# Altium integrated library Silicon Labs Isolation and Power.IntLib: 421 symbols (part 15 of 19)
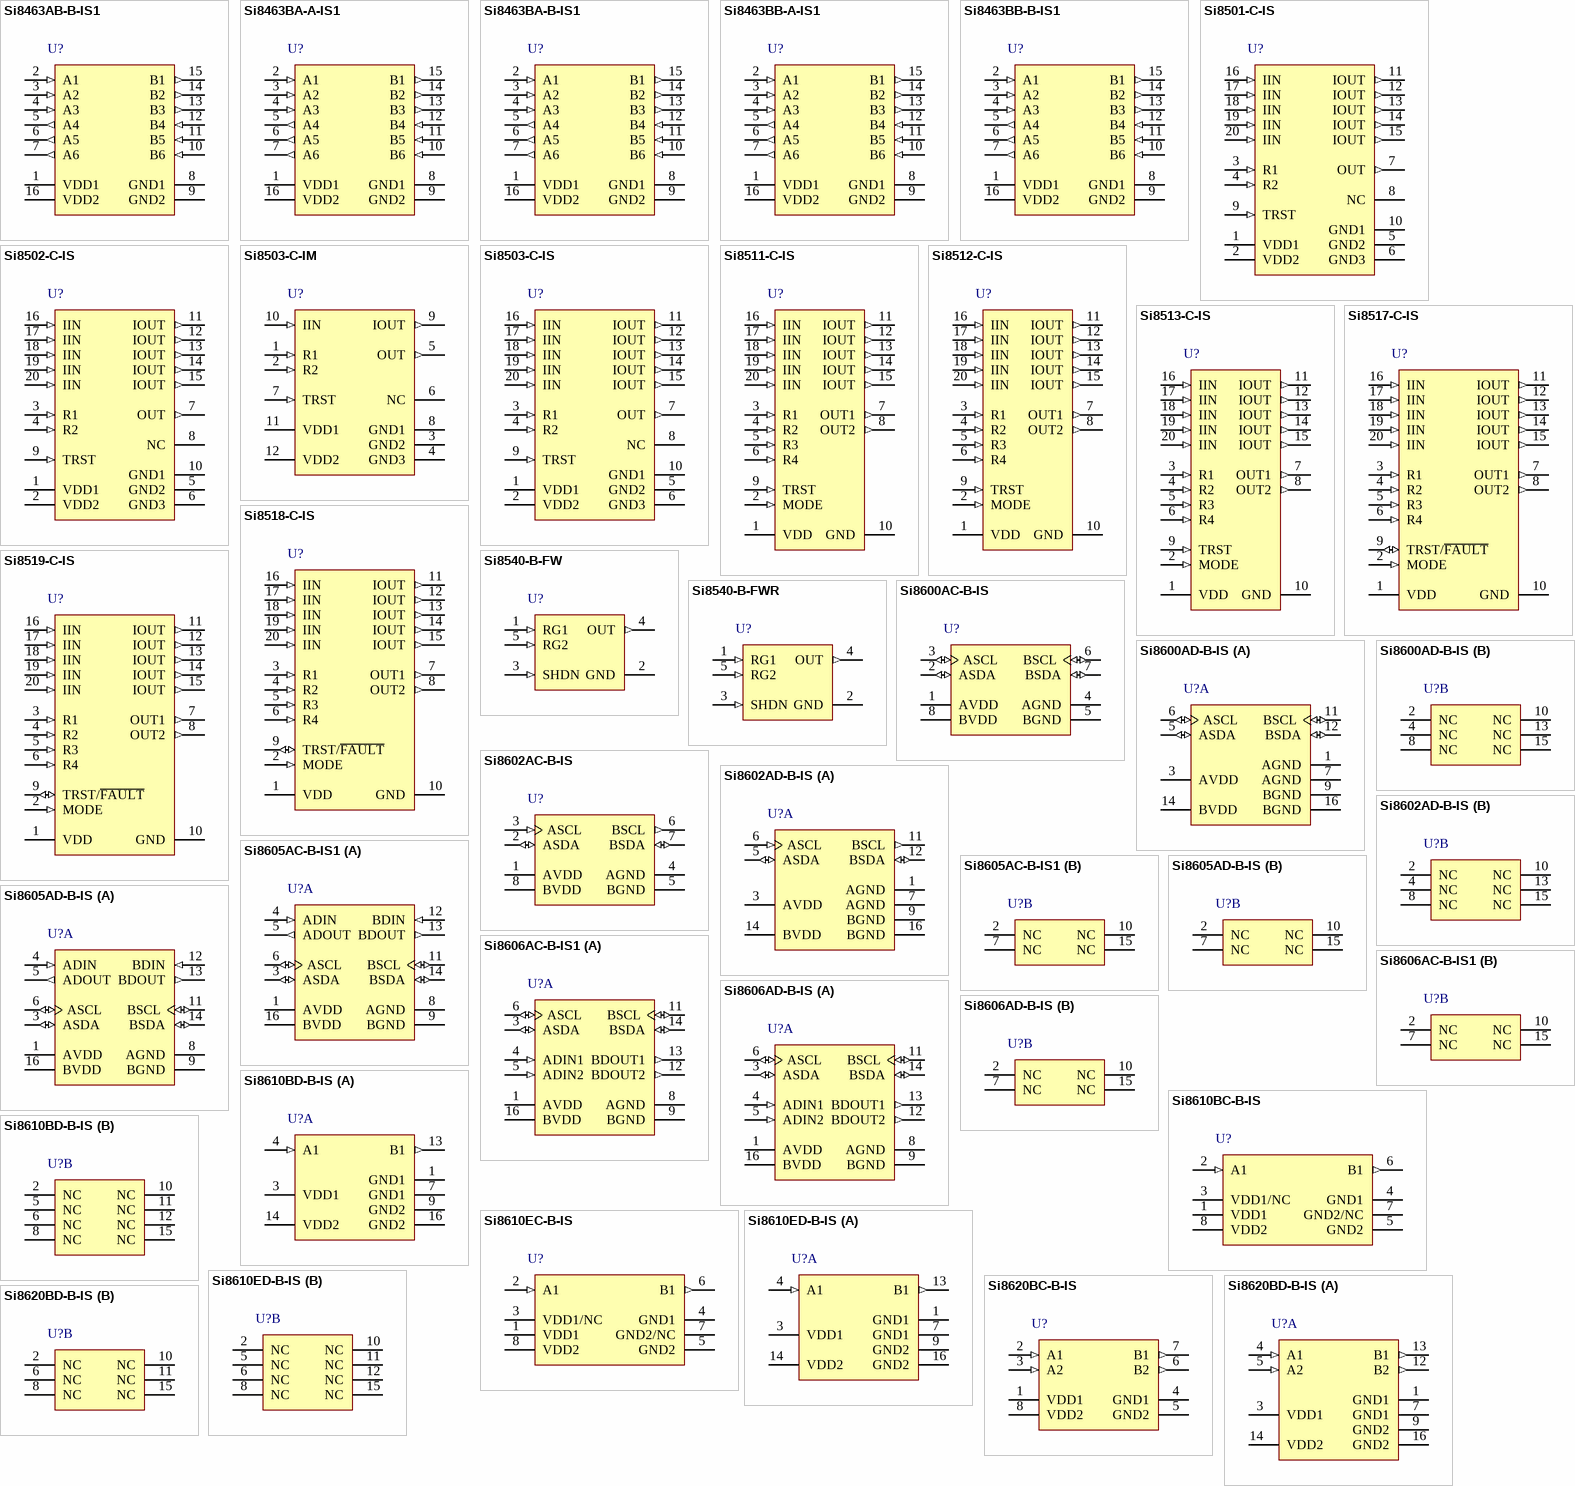
[diagram p28: symbols Si8463AB-B-IS1 to Si8620BD-B-IS]

## Si8602AC-B-IS
designator U?
Bidirectional I2C Isolator with Unidirectional Digital Channels, 1.7 Mbps, 3.75 kVRMS Isolation Rating, -40 to 125 degC, 8-pin SOIC; Manufacturer: Silicon Labs; PartNumber: Si8602AC-B-IS; 10kV surge: FALSE; Channel Type: Unidirectional+Bidirectional; Isolation Rating (kV): 3.75; Maximum Data Rate (Mbps): 1.7; Maximum Propagation Delay (ns): 55; Sub-Family: Isolators; DatasheetVersion: Rev. 1.2; PackageReference: SOIC-8-NB; PackageDescription: 8-Pin Narrow Body Plastic Small Outline, Body 4.9 x 3.9 mm, Pitch 1.27 mm; Supplier 1: Digi-Key; Supplier Part Number 1: 336-2050-5-ND; Supplier 2: Mouser; Supplier Part Number 2: 634-SI8602AC-B-IS; AEC-Q100: FALSE; Enable Control: FALSE; Mounting Technology: Surface Mount; ComponentLink1Description: Manufacturer URL; ComponentLink1URL: http://www.silabs.com/; ComponentLink2Description: Datasheet; ComponentLink2URL: http://www.silabs.com/Support%20Documents/TechnicalDocs/Si860x.pdf; ComponentLink3Description: Package Specification; ComponentLink3URL: http://www.silabs.com/Support%20Documents/TechnicalDocs/Si8220-21.pdf
footprint SLAB-SOIC-8-NB_N (SOIC, 8-Leads, Body 5x4mm, Pitch 1.27mm, IPC Medium Density)
footprint SLAB-SOIC-8-NB_L (SOIC, 8-Leads, Body 5x4mm, Pitch 1.27mm, IPC High Density)
footprint SLAB-SOIC-8-NB_M (SOIC, 8-Leads, Body 5x4mm, Pitch 1.27mm, IPC Low Density)
pins: 1 AVDD (power) "Side A power supply terminal; connect to a source of 3.0 to 5.5 V.", 2 ASDA (io) "Side A data (open drain) input or output.", 3 ASCL (in) "Side A clock input or output. Standard CMOS input for Si8602.", 4 AGND (power) "Side A ground terminal.", 5 BGND (power) "Side B ground terminal", 6 BSCL (out) "Side B clock input or output. Push-pull output for Si8602.", 7 BSDA (io) "Side B data (open drain) input or output.", 8 BVDD (power) "Side B power supply terminal; connect to a source of 3.0 to 5.5 V."

## Si8602AD-B-IS
designator U?
Bidirectional I2C Isolator with Unidirectional Digital Channels, 1.7 Mbps, 5 kVRMS Isolation Rating, -40 to 125 degC, 16-pin SOIC; Manufacturer: Silicon Labs; PartNumber: Si8602AD-B-IS; 10kV surge: FALSE; Channel Type: Unidirectional+Bidirectional; Isolation Rating (kV): 5; Maximum Data Rate (Mbps): 1.7; Maximum Propagation Delay (ns): 55; Sub-Family: Isolators; DatasheetVersion: Rev. 1.2; PackageReference: SOIC-16-WB; PackageDescription: 16-Pin Wide Body Plastic Small Outline, Body 10.3 x 7.5 mm, Pitch 1.27 mm; Supplier 1: Digi-Key; Supplier Part Number 1: 336-2051-5-ND; Supplier 2: Mouser; Supplier Part Number 2: 634-SI8602AD-B-IS; AEC-Q100: FALSE; Enable Control: FALSE; Mounting Technology: Surface Mount; Code_JEDEC: MS-013; ComponentLink1Description: Manufacturer URL; ComponentLink1URL: http://www.silabs.com/; ComponentLink2Description: Datasheet; ComponentLink2URL: http://www.silabs.com/Support%20Documents/TechnicalDocs/Si860x.pdf; ComponentLink3Description: Package Specification; ComponentLink3URL: https://www.silabs.com/Support%20Documents/TechnicalDocs/Si823x.pdf
footprint SLAB-SOIC-16-WB_N (SOIC, 16-Leads, Body 10.3x7.5mm, Pitch 1.27mm, IPC Medium Density)
footprint SLAB-SOIC-16-WB_L (SOIC, 16-Leads, Body 10.3x7.5mm, Pitch 1.27mm, IPC High Density)
footprint SLAB-SOIC-16-WB_M (SOIC, 16-Leads, Body 10.3x7.5mm, Pitch 1.27mm, IPC Low Density)
part A pins: 1 AGND (power) "Side A Ground Terminal.", 3 AVDD (power) "Side A power supply terminal. Connect to a source of 3.0 to 5.5 V.", 5 ASDA (io) "Side A data open drain input or output.", 6 ASCL (in) "Side A data open drain input or output.", 7 AGND (power) "Side A Ground Terminal.", 9 BGND (power) "Side B Ground Terminal.", 11 BSCL (out) "Side B data open drain input or output.", 12 BSDA (io) "Side B data open drain input or output.", 14 BVDD (power) "Side B power supply terminal. Connect to a source of 3.0 to 5.5 V.", 16 BGND (power) "Side B Ground Terminal."
part B pins: 2 NC "No connection.", 4 NC "No connection.", 8 NC "No connection.", 10 NC "No connection.", 13 NC "No connection.", 15 NC "No connection."

## Si8605AC-B-IS1
designator U?
Bidirectional I2C Isolator with Unidirectional Digital Channels, 10 Mbps, 3.75 kVRMS Isolation Rating, -40 to 125 degC, 16-pin SOIC; Manufacturer: Silicon Labs; PartNumber: Si8605AC-B-IS1; 10kV surge: FALSE; AEC-Q100: TRUE; Channel Type: Unidirectional+Bidirectional; Isolation Rating (kV): 3.75; Maximum Data Rate (Mbps): 10; Maximum Propagation Delay (ns): 55; Sub-Family: Isolators; DatasheetVersion: Rev. 1.2; PackageReference: SOIC-16-NB; PackageDescription: 16-Pin Small-Outline Integrated Circuit, Body 9.9 x 3.9 mm, Pitch 1.27 mm; Supplier 1: Digi-Key; Supplier Part Number 1: 336-2052-5-ND; Supplier 2: Mouser; Supplier Part Number 2: 634-SI8605AC-B-IS1; Enable Control: FALSE; Mounting Technology: Surface Mount; Code_JEDEC: MS-012; Code_IPC: J-STD-020; ComponentLink1Description: Manufacturer URL; ComponentLink1URL: http://www.silabs.com/; ComponentLink2Description: Datasheet; ComponentLink2URL: http://www.silabs.com/Support%20Documents/TechnicalDocs/Si860x.pdf; ComponentLink3Description: Package Specification; ComponentLink3URL: http://www.silabs.com/Support%20Documents/TechnicalDocs/si2401.pdf
footprint SLAB-SOIC-16-NB_N (SOIC, 16-Leads, Body 9.9x3.9mm, Pitch 1.27mm, IPC Medium Density)
footprint SLAB-SOIC-16-NB_L (SOIC, 16-Leads, Body 9.9x3.9mm, Pitch 1.27mm, IPC High Density)
footprint SLAB-SOIC-16-NB_M (SOIC, 16-Leads, Body 9.9x3.9mm, Pitch 1.27mm, IPC Low Density)
part A pins: 1 AVDD (power) "Side A power supply terminal. Connect to a source of 3.0 to 5.5 V.", 3 ASDA (io) "Side A data (open drain) input or output.", 4 ADIN (in) "Side A standard CMOS digital input (non I2C).", 5 ADOUT (out) "Side A digital output (non I2C).Push-Pull output for Si8605.", 6 ASCL (io) "Side A clock input or output.Open drain I/O for Si8605/06.", 8 AGND (power) "Side A Ground Terminal.", 9 BGND (power) "Side B Ground Terminal.", 11 BSCL (io) "Side B clock input or output.Open drain I/O for Si8605/06.", 12 BDIN (in) "Side B digital input (non I2C).Standard CMOS digital input for Si8605.", 13 BDOUT (out) "Side B digital push-pull output (non I2C).", 14 BSDA (io) "Side B data open drain input or output.", 16 BVDD (power) "Side B power supply terminal. Connect to a source of 3.0 to 5.5 V."
part B pins: 2 NC "No connection.", 7 NC "No connection.", 10 NC "No connection.", 15 NC "No connection."

## Si8605AD-B-IS
designator U?
Bidirectional I2C Isolator with Unidirectional Digital Channels, 10 Mbps, 5 kVRMS Isolation Rating, -40 to 125 degC, 16-pin SOIC; Manufacturer: Silicon Labs; PartNumber: Si8605AD-B-IS; 10kV surge: FALSE; AEC-Q100: TRUE; Channel Type: Unidirectional+Bidirectional; Isolation Rating (kV): 5; Maximum Data Rate (Mbps): 10; Maximum Propagation Delay (ns): 55; Sub-Family: Isolators; DatasheetVersion: Rev. 1.2; PackageReference: SOIC-16-WB; PackageDescription: 16-Pin Wide Body Plastic Small Outline, Body 10.3 x 7.5 mm, Pitch 1.27 mm; Supplier 1: Digi-Key; Supplier Part Number 1: 336-2053-5-ND; Supplier 2: Mouser; Supplier Part Number 2: 634-SI8605AD-B-IS; Enable Control: FALSE; Mounting Technology: Surface Mount; Code_JEDEC: MS-013; ComponentLink1Description: Manufacturer URL; ComponentLink1URL: http://www.silabs.com/; ComponentLink2Description: Datasheet; ComponentLink2URL: http://www.silabs.com/Support%20Documents/TechnicalDocs/Si860x.pdf; ComponentLink3Description: Package Specification; ComponentLink3URL: https://www.silabs.com/Support%20Documents/TechnicalDocs/Si823x.pdf
footprint SLAB-SOIC-16-WB_N (SOIC, 16-Leads, Body 10.3x7.5mm, Pitch 1.27mm, IPC Medium Density)
footprint SLAB-SOIC-16-WB_L (SOIC, 16-Leads, Body 10.3x7.5mm, Pitch 1.27mm, IPC High Density)
footprint SLAB-SOIC-16-WB_M (SOIC, 16-Leads, Body 10.3x7.5mm, Pitch 1.27mm, IPC Low Density)
part A pins: 1 AVDD (power) "Side A power supply terminal. Connect to a source of 3.0 to 5.5 V.", 3 ASDA (io) "Side A data (open drain) input or output.", 4 ADIN (in) "Side A standard CMOS digital input (non I2C).", 5 ADOUT (out) "Side A digital output (non I2C).Push-Pull output for Si8605.", 6 ASCL (io) "Side A clock input or output.Open drain I/O for Si8605/06.", 8 AGND (power) "Side A Ground Terminal.", 9 BGND (power) "Side B Ground Terminal.", 11 BSCL (io) "Side B clock input or output.Open drain I/O for Si8605/06.", 12 BDIN (in) "Side B digital input (non I2C).Standard CMOS digital input for Si8605.", 13 BDOUT (out) "Side B digital push-pull output (non I2C).", 14 BSDA (io) "Side B data open drain input or output.", 16 BVDD (power) "Side B power supply terminal. Connect to a source of 3.0 to 5.5 V."
part B pins: 2 NC "No connection.", 7 NC "No connection.", 10 NC "No connection.", 15 NC "No connection."

## Si8606AC-B-IS1
designator U?
Bidirectional I2C Isolator with Unidirectional Digital Channels, 1.7 Mbps, 3.75 kVRMS Isolation Rating, -40 to 125 degC, 16-pin SOIC; Manufacturer: Silicon Labs; PartNumber: Si8606AC-B-IS1; 10kV surge: FALSE; Channel Type: Unidirectional+Bidirectional; Isolation Rating (kV): 3.75; Maximum Data Rate (Mbps): 1.7; Maximum Propagation Delay (ns): 55; Sub-Family: Isolators; DatasheetVersion: Rev. 1.2; PackageReference: SOIC-16-NB; PackageDescription: 16-Pin Small-Outline Integrated Circuit, Body 9.9 x 3.9 mm, Pitch 1.27 mm; Supplier 1: Digi-Key; Supplier Part Number 1: 336-2054-5-ND; Supplier 2: Mouser; Supplier Part Number 2: 634-SI8606AC-B-IS1; AEC-Q100: FALSE; Enable Control: FALSE; Mounting Technology: Surface Mount; Code_JEDEC: MS-012; Code_IPC: J-STD-020; ComponentLink1Description: Manufacturer URL; ComponentLink1URL: http://www.silabs.com/; ComponentLink2Description: Datasheet; ComponentLink2URL: http://www.silabs.com/Support%20Documents/TechnicalDocs/Si860x.pdf; ComponentLink3Description: Package Specification; ComponentLink3URL: http://www.silabs.com/Support%20Documents/TechnicalDocs/si2401.pdf
footprint SLAB-SOIC-16-NB_N (SOIC, 16-Leads, Body 9.9x3.9mm, Pitch 1.27mm, IPC Medium Density)
footprint SLAB-SOIC-16-NB_L (SOIC, 16-Leads, Body 9.9x3.9mm, Pitch 1.27mm, IPC High Density)
footprint SLAB-SOIC-16-NB_M (SOIC, 16-Leads, Body 9.9x3.9mm, Pitch 1.27mm, IPC Low Density)
part A pins: 1 AVDD (power) "Side A power supply terminal. Connect to a source of 3.0 to 5.5 V.", 3 ASDA (io) "Side A data (open drain) input or output.", 4 ADIN1 (in) "Side A standard CMOS digital input (non I2C).", 5 ADIN2 (in) "Side A digital input (non I2C).Standard CMOS digital input for Si8606", 6 ASCL (io) "Side A clock input or output.Open drain I/O for Si8605/06.", 8 AGND (power) "Side A Ground Terminal.", 9 BGND (power) "Side B Ground Terminal.", 11 BSCL (io) "Side B clock input or output.Open drain I/O for Si8605/06.", 12 BDOUT2 (out) "Side B digital output (non I2C).Push-Pull output for Si8606", 13 BDOUT1 (out) "Side B digital push-pull output (non I2C).", 14 BSDA (io) "Side B data open drain input or output.", 16 BVDD (power) "Side B power supply terminal. Connect to a source of 3.0 to 5.5 V."
part B pins: 2 NC "No connection.", 7 NC "No connection.", 10 NC "No connection.", 15 NC "No connection."

## Si8606AD-B-IS
designator U?
Bidirectional I2C Isolator with Unidirectional Digital Channels, 1.7 Mbps, 5 kVRMS Isolation Rating, -40 to 125 degC, 16-pin SOIC; Manufacturer: Silicon Labs; PartNumber: Si8606AD-B-IS; 10kV surge: FALSE; Channel Type: Unidirectional+Bidirectional; Isolation Rating (kV): 5; Maximum Data Rate (Mbps): 1.7; Maximum Propagation Delay (ns): 55; Sub-Family: Isolators; DatasheetVersion: Rev. 1.2; PackageReference: SOIC-16-WB; PackageDescription: 16-Pin Wide Body Plastic Small Outline, Body 10.3 x 7.5 mm, Pitch 1.27 mm; Supplier 1: Digi-Key; Supplier Part Number 1: 336-2055-5-ND; Supplier 2: Mouser; Supplier Part Number 2: 634-SI8606AD-B-IS; AEC-Q100: FALSE; Enable Control: FALSE; Mounting Technology: Surface Mount; Code_JEDEC: MS-013; ComponentLink1Description: Manufacturer URL; ComponentLink1URL: http://www.silabs.com/; ComponentLink2Description: Datasheet; ComponentLink2URL: http://www.silabs.com/Support%20Documents/TechnicalDocs/Si860x.pdf; ComponentLink3Description: Package Specification; ComponentLink3URL: https://www.silabs.com/Support%20Documents/TechnicalDocs/Si823x.pdf
footprint SLAB-SOIC-16-WB_N (SOIC, 16-Leads, Body 10.3x7.5mm, Pitch 1.27mm, IPC Medium Density)
footprint SLAB-SOIC-16-WB_L (SOIC, 16-Leads, Body 10.3x7.5mm, Pitch 1.27mm, IPC High Density)
footprint SLAB-SOIC-16-WB_M (SOIC, 16-Leads, Body 10.3x7.5mm, Pitch 1.27mm, IPC Low Density)
part A pins: 1 AVDD (power) "Side A power supply terminal. Connect to a source of 3.0 to 5.5 V.", 3 ASDA (io) "Side A data (open drain) input or output.", 4 ADIN1 (in) "Side A standard CMOS digital input (non I2C).", 5 ADIN2 (in) "Side A digital input (non I2C).Standard CMOS digital input for Si8606", 6 ASCL (io) "Side A clock input or output.Open drain I/O for Si8605/06.", 8 AGND (power) "Side A Ground Terminal.", 9 BGND (power) "Side B Ground Terminal.", 11 BSCL (io) "Side B clock input or output.Open drain I/O for Si8605/06.", 12 BDOUT2 (out) "Side B digital output (non I2C).Push-Pull output for Si8606", 13 BDOUT1 (out) "Side B digital push-pull output (non I2C).", 14 BSDA (io) "Side B data open drain input or output.", 16 BVDD (power) "Side B power supply terminal. Connect to a source of 3.0 to 5.5 V."
part B pins: 2 NC "No connection.", 7 NC "No connection.", 10 NC "No connection.", 15 NC "No connection."

## Si8610BC-B-IS
designator U?
Low-Power Single and Dual-Channel Digital Isolator, 150 Mbps, 3.75 kVRMS Isolation Rating, -40 to 125 degC, 8-pin SOIC; Manufacturer: Silicon Labs; PartNumber: Si8610BC-B-IS; 10kV surge: FALSE; AEC-Q100: TRUE; Channel Type: Unidirectional; Isolation Rating (kV): 3.75; Maximum Data Rate (Mbps): 150; Maximum Propagation Delay (ns): 13; Sub-Family: Isolators; DatasheetVersion: Rev. 1.3; PackageReference: SOIC-8-NB; PackageDescription: 8-Pin Narrow Body Plastic Small Outline, Body 4.9 x 3.9 mm, Pitch 1.27 mm; Supplier 1: Digi-Key; Supplier Part Number 1: 336-2056-5-ND; Supplier 2: Mouser; Supplier Part Number 2: 634-SI8610BC-B-IS; Enable Control: FALSE; Mounting Technology: Surface Mount; ComponentLink1Description: Manufacturer URL; ComponentLink1URL: http://www.silabs.com/; ComponentLink2Description: Datasheet; ComponentLink2URL: http://www.silabs.com/Support%20Documents/TechnicalDocs/Si861x-2x.pdf; ComponentLink3Description: Package Specification; ComponentLink3URL: http://www.silabs.com/Support%20Documents/TechnicalDocs/Si8220-21.pdf
footprint SLAB-SOIC-8-NB_N (SOIC, 8-Leads, Body 5x4mm, Pitch 1.27mm, IPC Medium Density)
footprint SLAB-SOIC-8-NB_L (SOIC, 8-Leads, Body 5x4mm, Pitch 1.27mm, IPC High Density)
footprint SLAB-SOIC-8-NB_M (SOIC, 8-Leads, Body 5x4mm, Pitch 1.27mm, IPC Low Density)
pins: 1 VDD1 (power) "Side 1 power supply.", 2 A1 (in) "Side 1 digital input", 3 VDD1/NC (power) "Side 1 power supply", 4 GND1 (power) "Side 1 ground", 5 GND2 (power) "Side 2 ground.", 6 B1 (out) "Side 2 digital output.", 7 GND2/NC (power) "Side 2 ground", 8 VDD2 (power) "Side 2 power supply."

## Si8610BD-B-IS
designator U?
Low-Power Single and Dual-Channel Digital Isolator, 150 Mbps, 5 kVRMS Isolation Rating, -40 to 125 degC, 16-pin SOIC; Manufacturer: Silicon Labs; PartNumber: Si8610BD-B-IS; 10kV surge: FALSE; AEC-Q100: TRUE; Channel Type: Unidirectional; Isolation Rating (kV): 5; Maximum Data Rate (Mbps): 150; Maximum Propagation Delay (ns): 13; Sub-Family: Isolators; DatasheetVersion: Rev. 1.3; PackageReference: SOIC-16-WB; PackageDescription: 16-Pin Wide Body Plastic Small Outline, Body 10.3 x 7.5 mm, Pitch 1.27 mm; Supplier 1: Digi-Key; Supplier Part Number 1: 336-2057-5-ND; Supplier 2: Mouser; Supplier Part Number 2: 634-SI8610BD-B-IS; Enable Control: FALSE; Mounting Technology: Surface Mount; Code_JEDEC: MS-013; ComponentLink1Description: Manufacturer URL; ComponentLink1URL: http://www.silabs.com/; ComponentLink2Description: Datasheet; ComponentLink2URL: http://www.silabs.com/Support%20Documents/TechnicalDocs/Si861x-2x.pdf; ComponentLink3Description: Package Specification; ComponentLink3URL: https://www.silabs.com/Support%20Documents/TechnicalDocs/Si823x.pdf
footprint SLAB-SOIC-16-WB_N (SOIC, 16-Leads, Body 10.3x7.5mm, Pitch 1.27mm, IPC Medium Density)
footprint SLAB-SOIC-16-WB_L (SOIC, 16-Leads, Body 10.3x7.5mm, Pitch 1.27mm, IPC High Density)
footprint SLAB-SOIC-16-WB_M (SOIC, 16-Leads, Body 10.3x7.5mm, Pitch 1.27mm, IPC Low Density)
part A pins: 1 GND1 (power) "Side 1 ground.", 3 VDD1 (power) "Side 1 power supply.", 4 A1 (in) "Side 1 digital input.", 7 GND1 (power) "Side 1 ground.", 9 GND2 (power) "Side 2 ground.", 13 B1 (out) "Side 2 digital output.", 14 VDD2 (power) "Side 2 power supply.", 16 GND2 (power) "Side 2 ground."
part B pins: 2 NC "No Connect", 5 NC "No Connect", 6 NC "No Connect", 8 NC "No Connect", 10 NC "No Connect", 11 NC "No Connect", 12 NC "No Connect", 15 NC "No Connect"

## Si8610EC-B-IS
designator U?
Low-Power Single and Dual-Channel Digital Isolator, 150 Mbps, 3.75 kVRMS Isolation Rating, -40 to 125 degC, 8-pin SOIC; Manufacturer: Silicon Labs; PartNumber: Si8610EC-B-IS; 10kV surge: FALSE; AEC-Q100: TRUE; Channel Type: Unidirectional; Isolation Rating (kV): 3.75; Maximum Data Rate (Mbps): 150; Maximum Propagation Delay (ns): 13; Sub-Family: Isolators; DatasheetVersion: Rev. 1.3; PackageReference: SOIC-8-NB; PackageDescription: 8-Pin Narrow Body Plastic Small Outline, Body 4.9 x 3.9 mm, Pitch 1.27 mm; Supplier 1: Digi-Key; Supplier Part Number 1: 336-2058-5-ND; Supplier 2: Mouser; Supplier Part Number 2: 634-SI8610EC-B-IS; Enable Control: FALSE; Mounting Technology: Surface Mount; ComponentLink1Description: Manufacturer URL; ComponentLink1URL: http://www.silabs.com/; ComponentLink2Description: Datasheet; ComponentLink2URL: http://www.silabs.com/Support%20Documents/TechnicalDocs/Si861x-2x.pdf; ComponentLink3Description: Package Specification; ComponentLink3URL: http://www.silabs.com/Support%20Documents/TechnicalDocs/Si8220-21.pdf
footprint SLAB-SOIC-8-NB_N (SOIC, 8-Leads, Body 5x4mm, Pitch 1.27mm, IPC Medium Density)
footprint SLAB-SOIC-8-NB_L (SOIC, 8-Leads, Body 5x4mm, Pitch 1.27mm, IPC High Density)
footprint SLAB-SOIC-8-NB_M (SOIC, 8-Leads, Body 5x4mm, Pitch 1.27mm, IPC Low Density)
pins: 1 VDD1 (power) "Side 1 power supply", 2 A1 (in) "Side 1 digital input", 3 VDD1/NC (power) "Side 1 power supply", 4 GND1 (power) "Side 1 ground.", 5 GND2 (power) "Side 2 ground", 6 B1 (out) "Side 2 digital output", 7 GND2/NC "Side 2 ground.", 8 VDD2 (power) "Side 2 power supply"

## Si8610ED-B-IS
designator U?
Low-Power Single and Dual-Channel Digital Isolator, 150 Mbps, 5 kVRMS Isolation Rating, -40 to 125 degC, 16-pin SOIC; Manufacturer: Silicon Labs; PartNumber: Si8610ED-B-IS; 10kV surge: FALSE; AEC-Q100: TRUE; Channel Type: Unidirectional; Isolation Rating (kV): 5; Maximum Data Rate (Mbps): 150; Maximum Propagation Delay (ns): 13; Sub-Family: Isolators; DatasheetVersion: Rev. 1.3; PackageReference: SOIC-16-WB; PackageDescription: 16-Pin Wide Body Plastic Small Outline, Body 10.3 x 7.5 mm, Pitch 1.27 mm; Supplier 1: Digi-Key; Supplier Part Number 1: 336-2059-5-ND; Supplier 2: Mouser; Supplier Part Number 2: 634-SI8610ED-B-IS; Enable Control: FALSE; Mounting Technology: Surface Mount; Code_JEDEC: MS-013; ComponentLink1Description: Manufacturer URL; ComponentLink1URL: http://www.silabs.com/; ComponentLink2Description: Datasheet; ComponentLink2URL: http://www.silabs.com/Support%20Documents/TechnicalDocs/Si861x-2x.pdf; ComponentLink3Description: Package Specification; ComponentLink3URL: https://www.silabs.com/Support%20Documents/TechnicalDocs/Si823x.pdf
footprint SLAB-SOIC-16-WB_N (SOIC, 16-Leads, Body 10.3x7.5mm, Pitch 1.27mm, IPC Medium Density)
footprint SLAB-SOIC-16-WB_L (SOIC, 16-Leads, Body 10.3x7.5mm, Pitch 1.27mm, IPC High Density)
footprint SLAB-SOIC-16-WB_M (SOIC, 16-Leads, Body 10.3x7.5mm, Pitch 1.27mm, IPC Low Density)
part A pins: 1 GND1 (power) "Side 1 ground.", 3 VDD1 (power) "Side 1 power supply.", 4 A1 (in) "Side 1 digital input.", 7 GND1 (power) "Side 1 ground.", 9 GND2 (power) "Side 2 ground.", 13 B1 (out) "Side 2 digital output.", 14 VDD2 (power) "Side 2 power supply.", 16 GND2 (power) "Side 2 ground."
part B pins: 2 NC "No Connect", 5 NC "No Connect", 6 NC "No Connect", 8 NC "No Connect", 10 NC "No Connect", 11 NC "No Connect", 12 NC "No Connect", 15 NC "No Connect"

## Si8620BC-B-IS
designator U?
Low-Power Single and Dual-Channel Digital Isolator, 150 Mbps, 3.75 kVRMS Isolation Rating, -40 to 125 degC, 8-pin SOIC; Manufacturer: Silicon Labs; PartNumber: Si8620BC-B-IS; 10kV surge: FALSE; AEC-Q100: TRUE; Channel Type: Unidirectional; Isolation Rating (kV): 3.75; Maximum Data Rate (Mbps): 150; Maximum Propagation Delay (ns): 13; Sub-Family: Isolators; DatasheetVersion: Rev. 1.3; PackageReference: SOIC-8-NB; PackageDescription: 8-Pin Narrow Body Plastic Small Outline, Body 4.9 x 3.9 mm, Pitch 1.27 mm; Supplier 1: Digi-Key; Supplier Part Number 1: 336-2060-5-ND; Supplier 2: Mouser; Supplier Part Number 2: 634-SI8620BC-B-IS; Enable Control: FALSE; Mounting Technology: Surface Mount; ComponentLink1Description: Manufacturer URL; ComponentLink1URL: http://www.silabs.com/; ComponentLink2Description: Datasheet; ComponentLink2URL: http://www.silabs.com/Support%20Documents/TechnicalDocs/Si861x-2x.pdf; ComponentLink3Description: Package Specification; ComponentLink3URL: http://www.silabs.com/Support%20Documents/TechnicalDocs/Si8220-21.pdf
footprint SLAB-SOIC-8-NB_N (SOIC, 8-Leads, Body 5x4mm, Pitch 1.27mm, IPC Medium Density)
footprint SLAB-SOIC-8-NB_L (SOIC, 8-Leads, Body 5x4mm, Pitch 1.27mm, IPC High Density)
footprint SLAB-SOIC-8-NB_M (SOIC, 8-Leads, Body 5x4mm, Pitch 1.27mm, IPC Low Density)
pins: 1 VDD1 (power) "Side 1 power supply.", 2 A1 (in) "Side 1 digital input.", 3 A2 (in) "Side 1 digital input.", 4 GND1 (power) "Side 1 ground.", 5 GND2 (power) "Side 2 ground.", 6 B2 (out) "Side 2 digital output.", 7 B1 (out) "Side 2 digital output.", 8 VDD2 (power) "Side 2 power supply."

## Si8620BD-B-IS
designator U?
Low-Power Single and Dual-Channel Digital Isolator, 150 Mbps, 5 kVRMS Isolation Rating, -40 to 125 degC, 16-pin SOIC; Manufacturer: Silicon Labs; PartNumber: Si8620BD-B-IS; 10kV surge: FALSE; AEC-Q100: TRUE; Channel Type: Unidirectional; Isolation Rating (kV): 5; Maximum Data Rate (Mbps): 150; Maximum Propagation Delay (ns): 13; Sub-Family: Isolators; DatasheetVersion: Rev. 1.3; PackageReference: SOIC-16-WB; PackageDescription: 16-Pin Wide Body Plastic Small Outline, Body 10.3 x 7.5 mm, Pitch 1.27 mm; Supplier 1: Digi-Key; Supplier Part Number 1: 336-2061-5-ND; Supplier 2: Mouser; Supplier Part Number 2: 634-SI8620BD-B-IS; Enable Control: FALSE; Mounting Technology: Surface Mount; Code_JEDEC: MS-013; ComponentLink1Description: Manufacturer URL; ComponentLink1URL: http://www.silabs.com/; ComponentLink2Description: Datasheet; ComponentLink2URL: http://www.silabs.com/Support%20Documents/TechnicalDocs/Si861x-2x.pdf; ComponentLink3Description: Package Specification; ComponentLink3URL: https://www.silabs.com/Support%20Documents/TechnicalDocs/Si823x.pdf
footprint SLAB-SOIC-16-WB_N (SOIC, 16-Leads, Body 10.3x7.5mm, Pitch 1.27mm, IPC Medium Density)
footprint SLAB-SOIC-16-WB_L (SOIC, 16-Leads, Body 10.3x7.5mm, Pitch 1.27mm, IPC High Density)
footprint SLAB-SOIC-16-WB_M (SOIC, 16-Leads, Body 10.3x7.5mm, Pitch 1.27mm, IPC Low Density)
part A pins: 1 GND1 (power) "Side 1 ground.", 3 VDD1 (power) "Side 1 power supply.", 4 A1 (in) "Side 1 digital input.", 5 A2 (in) "Side 1 digital input.", 7 GND1 (power) "Side 1 ground.", 9 GND2 (power) "Side 2 ground.", 12 B2 (out) "Side 2 digital output.", 13 B1 (out) "Side 2 digital output.", 14 VDD2 (power) "Side 2 power supply.", 16 GND2 (power) "Side 2 ground."
part B pins: 2 NC "No Connect", 6 NC "No Connect", 8 NC "No Connect", 10 NC "No Connect", 11 NC "No Connect", 15 NC "No Connect"

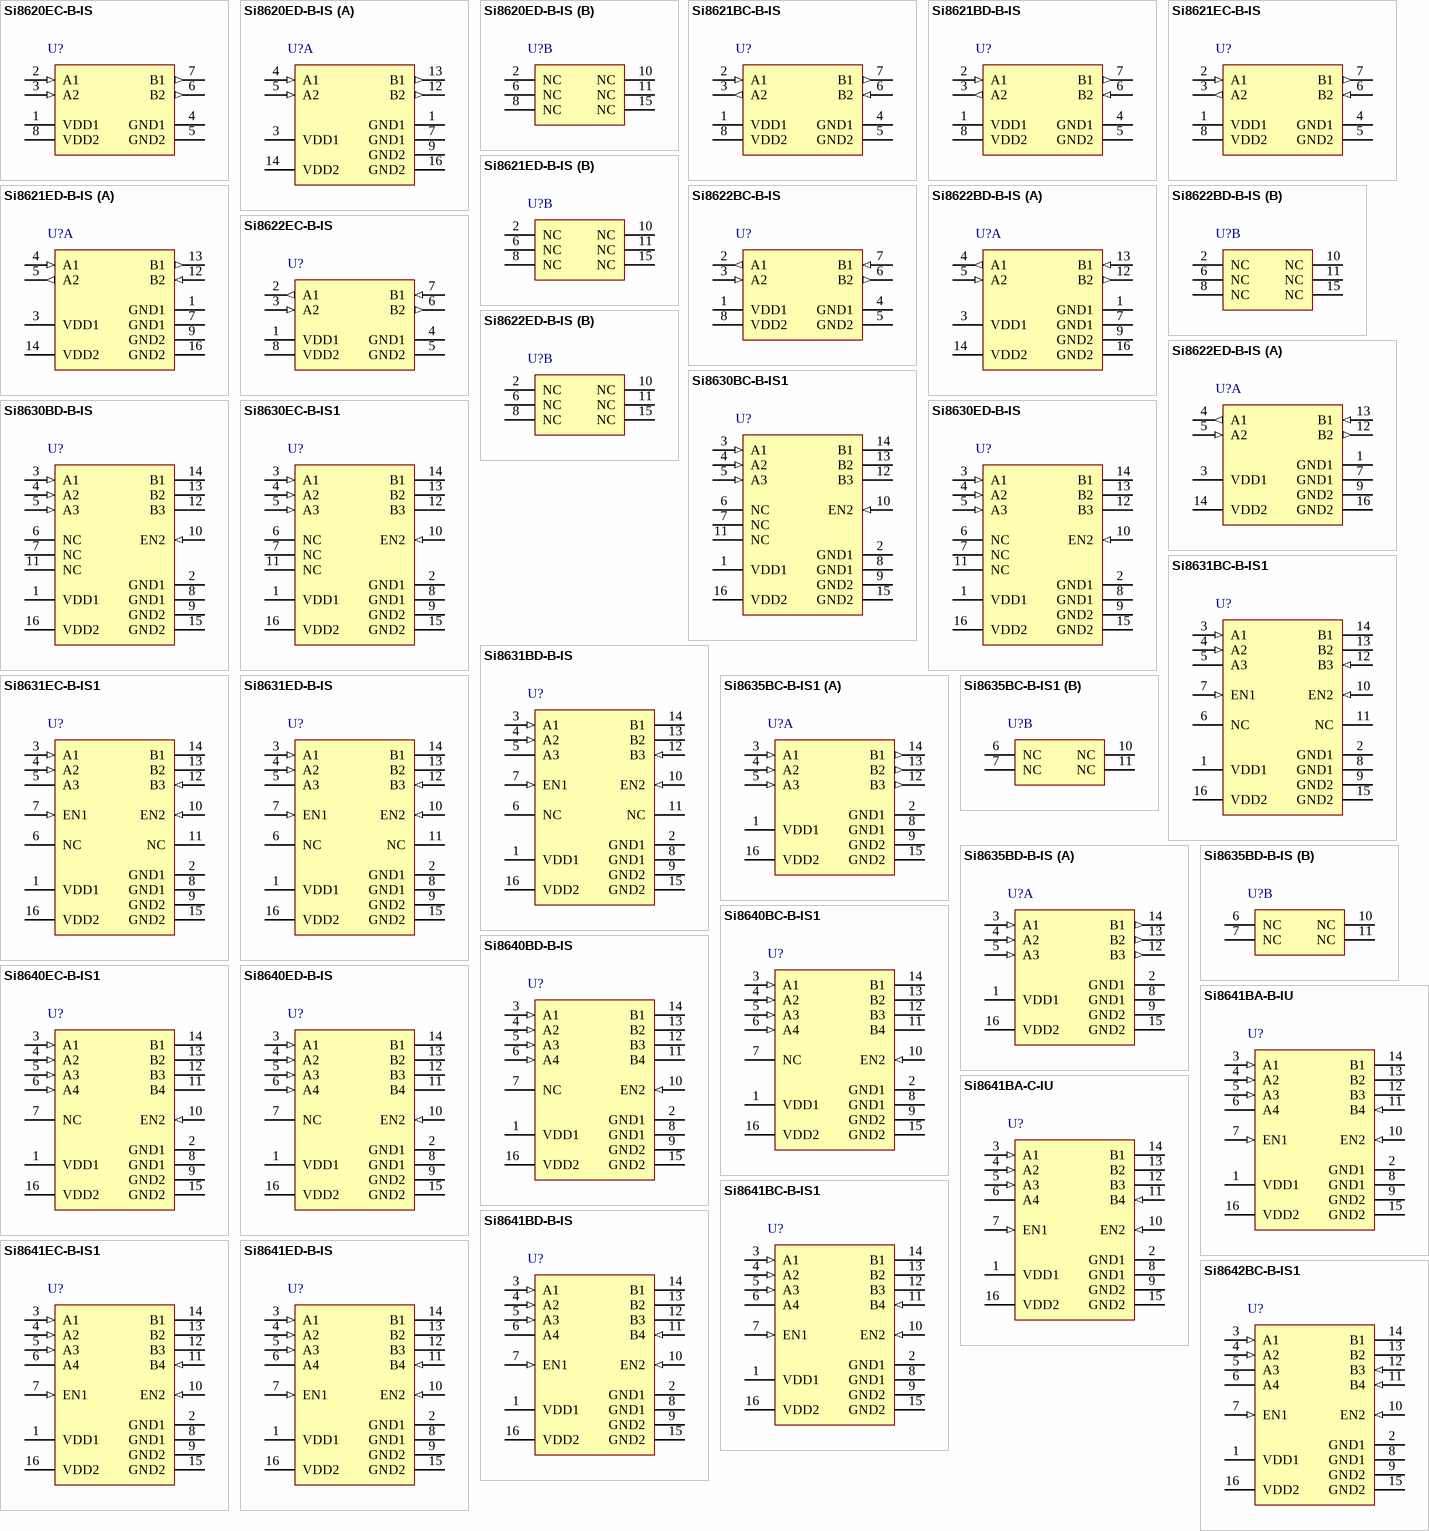
[diagram p11: symbols Si8620EC-B-IS to Si8642BC-B-IS1]

## Si8620EC-B-IS
designator U?
Low-Power Single and Dual-Channel Digital Isolator, 150 Mbps, 3.75 kVRMS Isolation Rating, -40 to 125 degC, 8-pin SOIC; Manufacturer: Silicon Labs; PartNumber: Si8620EC-B-IS; 10kV surge: FALSE; AEC-Q100: TRUE; Channel Type: Unidirectional; Isolation Rating (kV): 3.75; Maximum Data Rate (Mbps): 150; Maximum Propagation Delay (ns): 13; Sub-Family: Isolators; DatasheetVersion: Rev. 1.3; PackageReference: SOIC-8-NB; PackageDescription: 8-Pin Narrow Body Plastic Small Outline, Body 4.9 x 3.9 mm, Pitch 1.27 mm; Supplier 1: Digi-Key; Supplier Part Number 1: 336-2062-5-ND; Supplier 2: Mouser; Supplier Part Number 2: 634-SI8620EC-B-IS; Enable Control: FALSE; Mounting Technology: Surface Mount; ComponentLink1Description: Manufacturer URL; ComponentLink1URL: http://www.silabs.com/; ComponentLink2Description: Datasheet; ComponentLink2URL: http://www.silabs.com/Support%20Documents/TechnicalDocs/Si861x-2x.pdf; ComponentLink3Description: Package Specification; ComponentLink3URL: http://www.silabs.com/Support%20Documents/TechnicalDocs/Si8220-21.pdf
footprint SLAB-SOIC-8-NB_N (SOIC, 8-Leads, Body 5x4mm, Pitch 1.27mm, IPC Medium Density)
footprint SLAB-SOIC-8-NB_L (SOIC, 8-Leads, Body 5x4mm, Pitch 1.27mm, IPC High Density)
footprint SLAB-SOIC-8-NB_M (SOIC, 8-Leads, Body 5x4mm, Pitch 1.27mm, IPC Low Density)
pins: 1 VDD1 (power) "Side 1 power supply.", 2 A1 (in) "Side 1 digital input.", 3 A2 (in) "Side 1 digital input.", 4 GND1 (power) "Side 1 ground.", 5 GND2 (power) "Side 2 ground.", 6 B2 (out) "Side 2 digital output.", 7 B1 (out) "Side 2 digital output.", 8 VDD2 (power) "Side 2 power supply."

## Si8620ED-B-IS
designator U?
Low-Power Single and Dual-Channel Digital Isolator, 150 Mbps, 5 kVRMS Isolation Rating, -40 to 125 degC, 16-pin SOIC; Manufacturer: Silicon Labs; PartNumber: Si8620ED-B-IS; 10kV surge: FALSE; AEC-Q100: TRUE; Channel Type: Unidirectional; Isolation Rating (kV): 5; Maximum Data Rate (Mbps): 150; Maximum Propagation Delay (ns): 13; Sub-Family: Isolators; DatasheetVersion: Rev. 1.3; PackageReference: SOIC-16-WB; PackageDescription: 16-Pin Wide Body Plastic Small Outline, Body 10.3 x 7.5 mm, Pitch 1.27 mm; Supplier 1: Digi-Key; Supplier Part Number 1: 336-2063-5-ND; Supplier 2: Mouser; Supplier Part Number 2: 634-SI8620ED-B-IS; Enable Control: FALSE; Mounting Technology: Surface Mount; Code_JEDEC: MS-013; ComponentLink1Description: Manufacturer URL; ComponentLink1URL: http://www.silabs.com/; ComponentLink2Description: Datasheet; ComponentLink2URL: http://www.silabs.com/Support%20Documents/TechnicalDocs/Si861x-2x.pdf; ComponentLink3Description: Package Specification; ComponentLink3URL: https://www.silabs.com/Support%20Documents/TechnicalDocs/Si823x.pdf
footprint SLAB-SOIC-16-WB_N (SOIC, 16-Leads, Body 10.3x7.5mm, Pitch 1.27mm, IPC Medium Density)
footprint SLAB-SOIC-16-WB_L (SOIC, 16-Leads, Body 10.3x7.5mm, Pitch 1.27mm, IPC High Density)
footprint SLAB-SOIC-16-WB_M (SOIC, 16-Leads, Body 10.3x7.5mm, Pitch 1.27mm, IPC Low Density)
part A pins: 1 GND1 (power) "Side 1 ground.", 3 VDD1 (power) "Side 1 power supply.", 4 A1 (in) "Side 1 digital input.", 5 A2 (in) "Side 1 digital input.", 7 GND1 (power) "Side 1 ground.", 9 GND2 (power) "Side 2 ground.", 12 B2 (out) "Side 2 digital output.", 13 B1 (out) "Side 2 digital output.", 14 VDD2 (power) "Side 2 power supply.", 16 GND2 (power) "Side 2 ground."
part B pins: 2 NC "No Connect", 6 NC "No Connect", 8 NC "No Connect", 10 NC "No Connect", 11 NC "No Connect", 15 NC "No Connect"

## Si8621BC-B-IS
designator U?
Low-Power Single and Dual-Channel Digital Isolator, 150 Mbps, 3.75 kVRMS Isolation Rating, -40 to 125 degC, 8-pin SOIC; Manufacturer: Silicon Labs; PartNumber: Si8621BC-B-IS; 10kV surge: FALSE; Channel Type: Unidirectional; Enable Control: TRUE; Isolation Rating (kV): 3.75; Maximum Data Rate (Mbps): 150; Maximum Propagation Delay (ns): 13; Sub-Family: Isolators; DatasheetVersion: Rev. 1.3; PackageReference: SOIC-8-NB; PackageDescription: 8-Pin Narrow Body Plastic Small Outline, Body 4.9 x 3.9 mm, Pitch 1.27 mm; Supplier 1: Digi-Key; Supplier Part Number 1: 336-2064-5-ND; Supplier 2: Mouser; Supplier Part Number 2: 634-SI8621BC-B-IS; AEC-Q100: FALSE; Mounting Technology: Surface Mount; ComponentLink1Description: Manufacturer URL; ComponentLink1URL: http://www.silabs.com/; ComponentLink2Description: Datasheet; ComponentLink2URL: http://www.silabs.com/Support%20Documents/TechnicalDocs/Si861x-2x.pdf; ComponentLink3Description: Package Specification; ComponentLink3URL: http://www.silabs.com/Support%20Documents/TechnicalDocs/Si8220-21.pdf
footprint SLAB-SOIC-8-NB_N (SOIC, 8-Leads, Body 5x4mm, Pitch 1.27mm, IPC Medium Density)
footprint SLAB-SOIC-8-NB_L (SOIC, 8-Leads, Body 5x4mm, Pitch 1.27mm, IPC High Density)
footprint SLAB-SOIC-8-NB_M (SOIC, 8-Leads, Body 5x4mm, Pitch 1.27mm, IPC Low Density)
pins: 1 VDD1 (power) "Side 1 power supply.", 2 A1 (in) "Side 1 digital input", 3 A2 (out) "Side 1 digital output.", 4 GND1 (power) "Side 1 ground.", 5 GND2 (power) "Side 2 ground.", 6 B2 (in) "Side 2 digital input", 7 B1 (out) "Side 2 digital output.", 8 VDD2 (power) "Side 2 power supply."

## Si8621BD-B-IS
designator U?
Low-Power Single and Dual-Channel Digital Isolator, 150 Mbps, 5 kVRMS Isolation Rating, -40 to 125 degC, 16-pin SOIC; Manufacturer: Silicon Labs; PartNumber: Si8621BD-B-IS; 10kV surge: FALSE; Channel Type: Unidirectional; Enable Control: TRUE; Isolation Rating (kV): 5; Maximum Data Rate (Mbps): 150; Maximum Propagation Delay (ns): 13; Sub-Family: Isolators; DatasheetVersion: Rev. 1.3; PackageReference: SOIC-16-WB; PackageDescription: 16-Pin Wide Body Plastic Small Outline, Body 10.3 x 7.5 mm, Pitch 1.27 mm; Supplier 1: Digi-Key; Supplier Part Number 1: 336-2065-5-ND; Supplier 2: Mouser; Supplier Part Number 2: 634-SI8621BD-B-IS; AEC-Q100: FALSE; Mounting Technology: Surface Mount; Code_JEDEC: MS-013; ComponentLink1Description: Manufacturer URL; ComponentLink1URL: http://www.silabs.com/; ComponentLink2Description: Datasheet; ComponentLink2URL: http://www.silabs.com/Support%20Documents/TechnicalDocs/Si861x-2x.pdf; ComponentLink3Description: Package Specification; ComponentLink3URL: https://www.silabs.com/Support%20Documents/TechnicalDocs/Si823x.pdf
footprint SLAB-SOIC-16-WB_N (SOIC, 16-Leads, Body 10.3x7.5mm, Pitch 1.27mm, IPC Medium Density)
footprint SLAB-SOIC-16-WB_L (SOIC, 16-Leads, Body 10.3x7.5mm, Pitch 1.27mm, IPC High Density)
footprint SLAB-SOIC-16-WB_M (SOIC, 16-Leads, Body 10.3x7.5mm, Pitch 1.27mm, IPC Low Density)
pins: 1 VDD1 (power) "Side 1 power supply.", 2 A1 (in) "Side 1 digital input", 3 A2 (out) "Side 1 digital output.", 4 GND1 (power) "Side 1 ground.", 5 GND2 (power) "Side 2 ground.", 6 B2 (in) "Side 2 digital input", 7 B1 (out) "Side 2 digital output.", 8 VDD2 (power) "Side 2 power supply."

## Si8621EC-B-IS
designator U?
Low-Power Single and Dual-Channel Digital Isolator, 150 Mbps, 3.75 kVRMS Isolation Rating, -40 to 125 degC, 8-pin SOIC; Manufacturer: Silicon Labs; PartNumber: Si8621EC-B-IS; 10kV surge: FALSE; Channel Type: Unidirectional; Enable Control: TRUE; Isolation Rating (kV): 3.75; Maximum Data Rate (Mbps): 150; Maximum Propagation Delay (ns): 13; Sub-Family: Isolators; DatasheetVersion: Rev. 1.3; PackageReference: SOIC-8-NB; PackageDescription: 8-Pin Narrow Body Plastic Small Outline, Body 4.9 x 3.9 mm, Pitch 1.27 mm; Supplier 1: Digi-Key; Supplier Part Number 1: 336-2066-5-ND; Supplier 2: Mouser; Supplier Part Number 2: 634-SI8621EC-B-IS; AEC-Q100: FALSE; Mounting Technology: Surface Mount; ComponentLink1Description: Manufacturer URL; ComponentLink1URL: http://www.silabs.com/; ComponentLink2Description: Datasheet; ComponentLink2URL: http://www.silabs.com/Support%20Documents/TechnicalDocs/Si861x-2x.pdf; ComponentLink3Description: Package Specification; ComponentLink3URL: http://www.silabs.com/Support%20Documents/TechnicalDocs/Si8220-21.pdf
footprint SLAB-SOIC-8-NB_N (SOIC, 8-Leads, Body 5x4mm, Pitch 1.27mm, IPC Medium Density)
footprint SLAB-SOIC-8-NB_L (SOIC, 8-Leads, Body 5x4mm, Pitch 1.27mm, IPC High Density)
footprint SLAB-SOIC-8-NB_M (SOIC, 8-Leads, Body 5x4mm, Pitch 1.27mm, IPC Low Density)
pins: 1 VDD1 (power) "Side 1 power supply.", 2 A1 (in) "Side 1 digital input", 3 A2 (out) "Side 1 digital output.", 4 GND1 (power) "Side 1 ground.", 5 GND2 (power) "Side 2 ground.", 6 B2 (in) "Side 2 digital input", 7 B1 (out) "Side 2 digital output.", 8 VDD2 (power) "Side 2 power supply."

## Si8621ED-B-IS
designator U?
Low-Power Single and Dual-Channel Digital Isolator, 150 Mbps, 5 kVRMS Isolation Rating, -40 to 125 degC, 16-pin SOIC; Manufacturer: Silicon Labs; PartNumber: Si8621ED-B-IS; 10kV surge: FALSE; Channel Type: Unidirectional; Enable Control: TRUE; Isolation Rating (kV): 5; Maximum Data Rate (Mbps): 150; Maximum Propagation Delay (ns): 13; Sub-Family: Isolators; DatasheetVersion: Rev. 1.3; PackageReference: SOIC-16-WB; PackageDescription: 16-Pin Wide Body Plastic Small Outline, Body 10.3 x 7.5 mm, Pitch 1.27 mm; Supplier 1: Digi-Key; Supplier Part Number 1: 336-2067-5-ND; Supplier 2: Mouser; Supplier Part Number 2: 634-SI8621ED-B-IS; AEC-Q100: FALSE; Mounting Technology: Surface Mount; Code_JEDEC: MS-013; ComponentLink1Description: Manufacturer URL; ComponentLink1URL: http://www.silabs.com/; ComponentLink2Description: Datasheet; ComponentLink2URL: http://www.silabs.com/Support%20Documents/TechnicalDocs/Si861x-2x.pdf; ComponentLink3Description: Package Specification; ComponentLink3URL: https://www.silabs.com/Support%20Documents/TechnicalDocs/Si823x.pdf
footprint SLAB-SOIC-16-WB_N (SOIC, 16-Leads, Body 10.3x7.5mm, Pitch 1.27mm, IPC Medium Density)
footprint SLAB-SOIC-16-WB_L (SOIC, 16-Leads, Body 10.3x7.5mm, Pitch 1.27mm, IPC High Density)
footprint SLAB-SOIC-16-WB_M (SOIC, 16-Leads, Body 10.3x7.5mm, Pitch 1.27mm, IPC Low Density)
part A pins: 1 GND1 (power) "Side 1 ground.", 3 VDD1 (power) "Side 1 power supply.", 4 A1 (in) "Side 1 digital input.", 5 A2 (out) "Side 1 digital output.", 7 GND1 (power) "Side 1 ground.", 9 GND2 (power) "Side 2 ground.", 12 B2 (in) "Side 2 digital input.", 13 B1 (out) "Side 2 digital output.", 14 VDD2 (power) "Side 2 power supply.", 16 GND2 (power) "Side 2 ground."
part B pins: 2 NC "No Connect", 6 NC "No Connect", 8 NC "No Connect", 10 NC "No Connect", 11 NC "No Connect", 15 NC "No Connect"

## Si8622BC-B-IS
designator U?
Low-Power Single and Dual-Channel Digital Isolator, 150 Mbps, 3.75 kVRMS Isolation Rating, -40 to 125 degC, 8-pin SOIC; Manufacturer: Silicon Labs; PartNumber: Si8622BC-B-IS; 10kV surge: FALSE; Channel Type: Unidirectional; Enable Control: TRUE; Isolation Rating (kV): 3.75; Maximum Data Rate (Mbps): 150; Maximum Propagation Delay (ns): 13; Sub-Family: Isolators; DatasheetVersion: Rev. 1.3; PackageReference: SOIC-8-NB; PackageDescription: 8-Pin Narrow Body Plastic Small Outline, Body 4.9 x 3.9 mm, Pitch 1.27 mm; Supplier 1: Digi-Key; Supplier Part Number 1: 336-2068-5-ND; Supplier 2: Mouser; Supplier Part Number 2: 634-SI8622BC-B-IS; AEC-Q100: FALSE; Mounting Technology: Surface Mount; ComponentLink1Description: Manufacturer URL; ComponentLink1URL: http://www.silabs.com/; ComponentLink2Description: Datasheet; ComponentLink2URL: http://www.silabs.com/Support%20Documents/TechnicalDocs/Si861x-2x.pdf; ComponentLink3Description: Package Specification; ComponentLink3URL: http://www.silabs.com/Support%20Documents/TechnicalDocs/Si8220-21.pdf
footprint SLAB-SOIC-8-NB_N (SOIC, 8-Leads, Body 5x4mm, Pitch 1.27mm, IPC Medium Density)
footprint SLAB-SOIC-8-NB_L (SOIC, 8-Leads, Body 5x4mm, Pitch 1.27mm, IPC High Density)
footprint SLAB-SOIC-8-NB_M (SOIC, 8-Leads, Body 5x4mm, Pitch 1.27mm, IPC Low Density)
pins: 1 VDD1 (power) "Side 1 power supply.", 2 A1 (out) "Side 1 digital output.", 3 A2 (in) "Side 1 digital input.", 4 GND1 (power) "Side 1 ground.", 5 GND2 (power) "Side 2 ground.", 6 B2 (out) "Side 2 digital output.", 7 B1 (in) "Side 2 digital input.", 8 VDD2 (power) "Side 2 power supply."

## Si8622BD-B-IS
designator U?
Low-Power Single and Dual-Channel Digital Isolator, 150 Mbps, 5 kVRMS Isolation Rating, -40 to 125 degC, 16-pin SOIC; Manufacturer: Silicon Labs; PartNumber: Si8622BD-B-IS; 10kV surge: FALSE; Channel Type: Unidirectional; Enable Control: TRUE; Isolation Rating (kV): 5; Maximum Data Rate (Mbps): 150; Maximum Propagation Delay (ns): 13; Sub-Family: Isolators; DatasheetVersion: Rev. 1.3; PackageReference: SOIC-16-WB; PackageDescription: 16-Pin Wide Body Plastic Small Outline, Body 10.3 x 7.5 mm, Pitch 1.27 mm; Supplier 1: Digi-Key; Supplier Part Number 1: 336-2069-5-ND; Supplier 2: Mouser; Supplier Part Number 2: 634-SI8622BD-B-IS; AEC-Q100: FALSE; Mounting Technology: Surface Mount; Code_JEDEC: MS-013; ComponentLink1Description: Manufacturer URL; ComponentLink1URL: http://www.silabs.com/; ComponentLink2Description: Datasheet; ComponentLink2URL: http://www.silabs.com/Support%20Documents/TechnicalDocs/Si861x-2x.pdf; ComponentLink3Description: Package Specification; ComponentLink3URL: https://www.silabs.com/Support%20Documents/TechnicalDocs/Si823x.pdf
footprint SLAB-SOIC-16-WB_N (SOIC, 16-Leads, Body 10.3x7.5mm, Pitch 1.27mm, IPC Medium Density)
footprint SLAB-SOIC-16-WB_L (SOIC, 16-Leads, Body 10.3x7.5mm, Pitch 1.27mm, IPC High Density)
footprint SLAB-SOIC-16-WB_M (SOIC, 16-Leads, Body 10.3x7.5mm, Pitch 1.27mm, IPC Low Density)
part A pins: 1 GND1 (power) "Side 1 ground", 3 VDD1 (power) "Side 1 power supply", 4 A1 (out) "Side 1 digital output", 5 A2 (in) "Side 1 digital input", 7 GND1 (power) "Side 1 ground", 9 GND2 (power) "Side 2 ground", 12 B2 (out) "Side 2 digital output", 13 B1 (in) "Side 2 digital input", 14 VDD2 (power) "Side 2 power supply.", 16 GND2 (power) "Side 2 ground."
part B pins: 2 NC, 6 NC, 8 NC, 10 NC, 11 NC, 15 NC

## Si8622EC-B-IS
designator U?
Low-Power Single and Dual-Channel Digital Isolator, 150 Mbps, 3.75 kVRMS Isolation Rating, -40 to 125 degC, 8-pin SOIC; Manufacturer: Silicon Labs; PartNumber: Si8622EC-B-IS; 10kV surge: FALSE; Channel Type: Unidirectional; Enable Control: TRUE; Isolation Rating (kV): 3.75; Maximum Data Rate (Mbps): 150; Maximum Propagation Delay (ns): 13; Sub-Family: Isolators; DatasheetVersion: Rev. 1.3; PackageReference: SOIC-8-NB; PackageDescription: 8-Pin Narrow Body Plastic Small Outline, Body 4.9 x 3.9 mm, Pitch 1.27 mm; Supplier 1: Digi-Key; Supplier Part Number 1: 336-2070-5-ND; Supplier 2: Mouser; Supplier Part Number 2: 634-SI8622EC-B-IS; AEC-Q100: FALSE; Mounting Technology: Surface Mount; ComponentLink1Description: Manufacturer URL; ComponentLink1URL: http://www.silabs.com/; ComponentLink2Description: Datasheet; ComponentLink2URL: http://www.silabs.com/Support%20Documents/TechnicalDocs/Si861x-2x.pdf; ComponentLink3Description: Package Specification; ComponentLink3URL: http://www.silabs.com/Support%20Documents/TechnicalDocs/Si8220-21.pdf
footprint SLAB-SOIC-8-NB_N (SOIC, 8-Leads, Body 5x4mm, Pitch 1.27mm, IPC Medium Density)
footprint SLAB-SOIC-8-NB_L (SOIC, 8-Leads, Body 5x4mm, Pitch 1.27mm, IPC High Density)
footprint SLAB-SOIC-8-NB_M (SOIC, 8-Leads, Body 5x4mm, Pitch 1.27mm, IPC Low Density)
pins: 1 VDD1 (power) "Side 1 power supply.", 2 A1 (out) "Side 1 digital output.", 3 A2 (in) "Side 1 digital input.", 4 GND1 (power) "Side 1 ground.", 5 GND2 (power) "Side 2 ground.", 6 B2 (out) "Side 2 digital output.", 7 B1 (in) "Side 2 digital input.", 8 VDD2 (power) "Side 2 power supply."

## Si8622ED-B-IS
designator U?
Low-Power Single and Dual-Channel Digital Isolator, 150 Mbps, 5 kVRMS Isolation Rating, -40 to 125 degC, 16-pin SOIC; Manufacturer: Silicon Labs; PartNumber: Si8622ED-B-IS; 10kV surge: FALSE; Channel Type: Unidirectional; Enable Control: TRUE; Isolation Rating (kV): 5; Maximum Data Rate (Mbps): 150; Maximum Propagation Delay (ns): 13; Sub-Family: Isolators; DatasheetVersion: Rev. 1.3; PackageReference: SOIC-16-WB; PackageDescription: 16-Pin Wide Body Plastic Small Outline, Body 10.3 x 7.5 mm, Pitch 1.27 mm; Supplier 1: Digi-Key; Supplier Part Number 1: 336-2071-5-ND; Supplier 2: Mouser; Supplier Part Number 2: 634-SI8622ED-B-IS; AEC-Q100: FALSE; Mounting Technology: Surface Mount; Code_JEDEC: MS-013; ComponentLink1Description: Manufacturer URL; ComponentLink1URL: http://www.silabs.com/; ComponentLink2Description: Datasheet; ComponentLink2URL: http://www.silabs.com/Support%20Documents/TechnicalDocs/Si861x-2x.pdf; ComponentLink3Description: Package Specification; ComponentLink3URL: https://www.silabs.com/Support%20Documents/TechnicalDocs/Si823x.pdf
footprint SLAB-SOIC-16-WB_N (SOIC, 16-Leads, Body 10.3x7.5mm, Pitch 1.27mm, IPC Medium Density)
footprint SLAB-SOIC-16-WB_L (SOIC, 16-Leads, Body 10.3x7.5mm, Pitch 1.27mm, IPC High Density)
footprint SLAB-SOIC-16-WB_M (SOIC, 16-Leads, Body 10.3x7.5mm, Pitch 1.27mm, IPC Low Density)
part A pins: 1 GND1 (power) "Side 1 ground.", 3 VDD1 (power) "Side 1 power supply.", 4 A1 (out) "Side 1 digital output.", 5 A2 (in) "Side 1 digital intput.", 7 GND1 (power) "Side 1 ground.", 9 GND2 (power) "Side 2 ground.", 12 B2 (out) "Side 2 digital output.", 13 B1 (in) "Side 2 digital intput.", 14 VDD2 (power) "Side 2 power supply.", 16 GND2 (power) "Side 2 ground."
part B pins: 2 NC "No Connect", 6 NC "No Connect", 8 NC "No Connect", 10 NC "No Connect", 11 NC "No Connect", 15 NC "No Connect"

## Si8630BC-B-IS1
designator U?
Low-Power Triple-Channel Digital Isolator, 150 Mbps, 3.75 kVRMS Isolation Rating, -40 to 125 degC, 16-pin SOIC; Manufacturer: Silicon Labs; PartNumber: Si8630BC-B-IS1; 10kV surge: FALSE; AEC-Q100: TRUE; Channel Type: Unidirectional; Isolation Rating (kV): 3.75; Maximum Data Rate (Mbps): 150; Maximum Propagation Delay (ns): 13; Sub-Family: Isolators; DatasheetVersion: Rev. 1.3; PackageReference: SOIC-16-NB; PackageDescription: 16-Pin Small-Outline Integrated Circuit, Body 9.9 x 3.9 mm, Pitch 1.27 mm; Supplier 1: Digi-Key; Supplier Part Number 1: 336-2072-5-ND; Supplier 2: Mouser; Supplier Part Number 2: 634-SI8630BC-B-IS1; Enable Control: TRUE; Mounting Technology: Surface Mount; Code_JEDEC: MS-012; Code_IPC: J-STD-020; ComponentLink1Description: Manufacturer URL; ComponentLink1URL: http://www.silabs.com/; ComponentLink2Description: Datasheet; ComponentLink2URL: http://www.silabs.com/Support%20Documents/TechnicalDocs/Si863x.pdf; ComponentLink3Description: Package Specification; ComponentLink3URL: http://www.silabs.com/Support%20Documents/TechnicalDocs/si2401.pdf
footprint SLAB-SOIC-16-NB_N (SOIC, 16-Leads, Body 9.9x3.9mm, Pitch 1.27mm, IPC Medium Density)
footprint SLAB-SOIC-16-NB_L (SOIC, 16-Leads, Body 9.9x3.9mm, Pitch 1.27mm, IPC High Density)
footprint SLAB-SOIC-16-NB_M (SOIC, 16-Leads, Body 9.9x3.9mm, Pitch 1.27mm, IPC Low Density)
pins: 1 VDD1 (power) "Side 1 power supply.", 2 GND1 (power) "Side 1 ground.", 3 A1 (in) "Side 1 digital input.", 4 A2 (in) "Side 1 digital input.", 5 A3 (in) "Side 1 digital input.", 6 NC "No Connect.", 7 NC "No Connect.", 8 GND1 (power) "Side 1 ground.", 9 GND2 (power) "Side 2 ground.", 10 EN2 (in) "Side 2 active high enable.", 11 NC "No Connect.", 12 B3 (hiz) "Side 2 digital output.", 13 B2 (hiz) "Side 2 digital output.", 14 B1 (hiz) "Side 2 digital output.", 15 GND2 (power) "Side 2 ground.", 16 VDD2 (power) "Side 2 power supply."

## Si8630BD-B-IS
designator U?
Low-Power Triple-Channel Digital Isolator, 150 Mbps, 5 kVRMS Isolation Rating, -40 to 125 degC, 16-pin SOIC; Manufacturer: Silicon Labs; PartNumber: Si8630BD-B-IS; 10kV surge: FALSE; AEC-Q100: TRUE; Channel Type: Unidirectional; Isolation Rating (kV): 5; Maximum Data Rate (Mbps): 150; Maximum Propagation Delay (ns): 13; Sub-Family: Isolators; DatasheetVersion: Rev. 1.3; PackageReference: SOIC-16-WB; PackageDescription: 16-Pin Wide Body Plastic Small Outline, Body 10.3 x 7.5 mm, Pitch 1.27 mm; Supplier 1: Digi-Key; Supplier Part Number 1: 336-2073-5-ND; Supplier 2: Mouser; Supplier Part Number 2: 634-SI8630BD-B-IS; Enable Control: TRUE; Mounting Technology: Surface Mount; Code_JEDEC: MS-013; ComponentLink1Description: Manufacturer URL; ComponentLink1URL: http://www.silabs.com/; ComponentLink2Description: Datasheet; ComponentLink2URL: http://www.silabs.com/Support%20Documents/TechnicalDocs/Si863x.pdf; ComponentLink3Description: Package Specification; ComponentLink3URL: https://www.silabs.com/Support%20Documents/TechnicalDocs/Si823x.pdf
footprint SLAB-SOIC-16-WB_N (SOIC, 16-Leads, Body 10.3x7.5mm, Pitch 1.27mm, IPC Medium Density)
footprint SLAB-SOIC-16-WB_L (SOIC, 16-Leads, Body 10.3x7.5mm, Pitch 1.27mm, IPC High Density)
footprint SLAB-SOIC-16-WB_M (SOIC, 16-Leads, Body 10.3x7.5mm, Pitch 1.27mm, IPC Low Density)
pins: 1 VDD1 (power) "Side 1 power supply.", 2 GND1 (power) "Side 1 ground.", 3 A1 (in) "Side 1 digital input.", 4 A2 (in) "Side 1 digital input.", 5 A3 (in) "Side 1 digital input.", 6 NC "No Connect.", 7 NC "No Connect.", 8 GND1 (power) "Side 1 ground.", 9 GND2 (power) "Side 2 ground.", 10 EN2 (in) "Side 2 active high enable.", 11 NC "No Connect.", 12 B3 (hiz) "Side 2 digital output.", 13 B2 (hiz) "Side 2 digital output.", 14 B1 (hiz) "Side 2 digital output.", 15 GND2 (power) "Side 2 ground.", 16 VDD2 (power) "Side 2 power supply."

## Si8630EC-B-IS1
designator U?
Low-Power Triple-Channel Digital Isolator, 150 Mbps, 3.75 kVRMS Isolation Rating, -40 to 125 degC, 16-pin SOIC; Manufacturer: Silicon Labs; PartNumber: Si8630EC-B-IS1; 10kV surge: FALSE; AEC-Q100: TRUE; Channel Type: Unidirectional; Isolation Rating (kV): 3.75; Maximum Data Rate (Mbps): 150; Maximum Propagation Delay (ns): 13; Sub-Family: Isolators; DatasheetVersion: Rev. 1.3; PackageReference: SOIC-16-NB; PackageDescription: 16-Pin Small-Outline Integrated Circuit, Body 9.9 x 3.9 mm, Pitch 1.27 mm; Supplier 1: Digi-Key; Supplier Part Number 1: 336-2074-5-ND; Supplier 2: Mouser; Supplier Part Number 2: 634-SI8630EC-B-IS1; Enable Control: TRUE; Mounting Technology: Surface Mount; Code_JEDEC: MS-012; Code_IPC: J-STD-020; ComponentLink1Description: Manufacturer URL; ComponentLink1URL: http://www.silabs.com/; ComponentLink2Description: Datasheet; ComponentLink2URL: http://www.silabs.com/Support%20Documents/TechnicalDocs/Si863x.pdf; ComponentLink3Description: Package Specification; ComponentLink3URL: http://www.silabs.com/Support%20Documents/TechnicalDocs/si2401.pdf
footprint SLAB-SOIC-16-NB_N (SOIC, 16-Leads, Body 9.9x3.9mm, Pitch 1.27mm, IPC Medium Density)
footprint SLAB-SOIC-16-NB_L (SOIC, 16-Leads, Body 9.9x3.9mm, Pitch 1.27mm, IPC High Density)
footprint SLAB-SOIC-16-NB_M (SOIC, 16-Leads, Body 9.9x3.9mm, Pitch 1.27mm, IPC Low Density)
pins: 1 VDD1 (power) "Side 1 power supply.", 2 GND1 (power) "Side 1 ground.", 3 A1 (in) "Side 1 digital input.", 4 A2 (in) "Side 1 digital input.", 5 A3 (in) "Side 1 digital input.", 6 NC "No Connect.", 7 NC "No Connect.", 8 GND1 (power) "Side 1 ground.", 9 GND2 (power) "Side 2 ground.", 10 EN2 (in) "Side 2 active high enable.", 11 NC "No Connect.", 12 B3 (hiz) "Side 2 digital output.", 13 B2 (hiz) "Side 2 digital output.", 14 B1 (hiz) "Side 2 digital output.", 15 GND2 (power) "Side 2 ground.", 16 VDD2 (power) "Side 2 power supply."

## Si8630ED-B-IS
designator U?
Low-Power Triple-Channel Digital Isolator, 150 Mbps, 5 kVRMS Isolation Rating, -40 to 125 degC, 16-pin SOIC; Manufacturer: Silicon Labs; PartNumber: Si8630ED-B-IS; 10kV surge: FALSE; AEC-Q100: TRUE; Channel Type: Unidirectional; Isolation Rating (kV): 5; Maximum Data Rate (Mbps): 150; Maximum Propagation Delay (ns): 13; Sub-Family: Isolators; DatasheetVersion: Rev. 1.3; PackageReference: SOIC-16-WB; PackageDescription: 16-Pin Wide Body Plastic Small Outline, Body 10.3 x 7.5 mm, Pitch 1.27 mm; Supplier 1: Digi-Key; Supplier Part Number 1: 336-2075-5-ND; Supplier 2: Mouser; Supplier Part Number 2: 634-SI8630ED-B-IS; Enable Control: TRUE; Mounting Technology: Surface Mount; Code_JEDEC: MS-013; ComponentLink1Description: Manufacturer URL; ComponentLink1URL: http://www.silabs.com/; ComponentLink2Description: Datasheet; ComponentLink2URL: http://www.silabs.com/Support%20Documents/TechnicalDocs/Si863x.pdf; ComponentLink3Description: Package Specification; ComponentLink3URL: https://www.silabs.com/Support%20Documents/TechnicalDocs/Si823x.pdf
footprint SLAB-SOIC-16-WB_N (SOIC, 16-Leads, Body 10.3x7.5mm, Pitch 1.27mm, IPC Medium Density)
footprint SLAB-SOIC-16-WB_L (SOIC, 16-Leads, Body 10.3x7.5mm, Pitch 1.27mm, IPC High Density)
footprint SLAB-SOIC-16-WB_M (SOIC, 16-Leads, Body 10.3x7.5mm, Pitch 1.27mm, IPC Low Density)
pins: 1 VDD1 (power) "Side 1 power supply.", 2 GND1 (power) "Side 1 ground.", 3 A1 (in) "Side 1 digital input.", 4 A2 (in) "Side 1 digital input.", 5 A3 (in) "Side 1 digital input.", 6 NC "No Connect.", 7 NC "No Connect.", 8 GND1 (power) "Side 1 ground.", 9 GND2 (power) "Side 2 ground.", 10 EN2 (in) "Side 2 active high enable.", 11 NC "No Connect.", 12 B3 (hiz) "Side 2 digital output.", 13 B2 (hiz) "Side 2 digital output.", 14 B1 (hiz) "Side 2 digital output.", 15 GND2 (power) "Side 2 ground.", 16 VDD2 (power) "Side 2 power supply."